# Altium footprint library PCB - SWITCH - CTS 218-4LPJ.PCBLIB: 1 footprints
Each footprint in its own frame and in the unit in brackets; x right, y up, seen from the top. Pads: shape width x height; smd on the part's side, far side on the other; paste and mask are expansions set on the pad; w line width, h text height; cw(c..) or ccw(c..) is an arc to the next point about the centre after c.
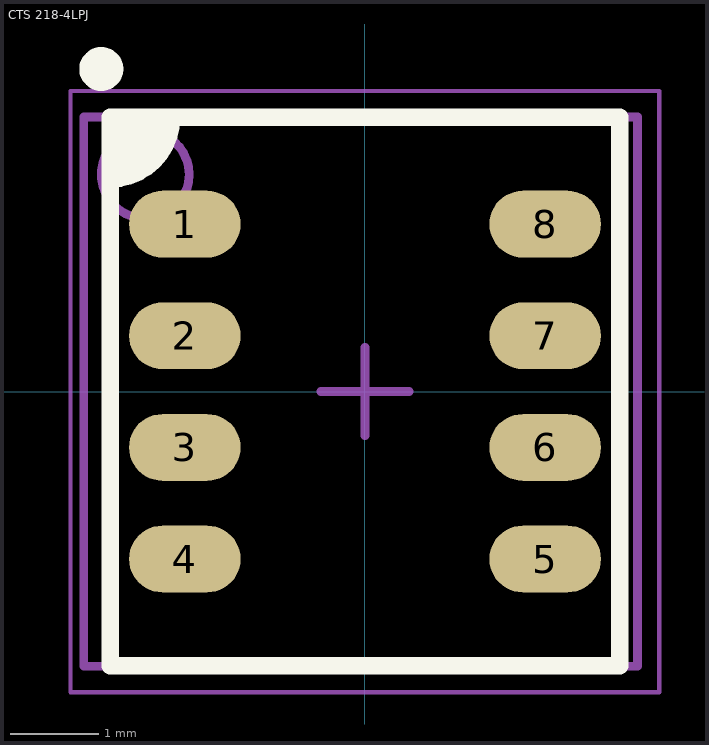
[diagram p0: the footprint, top view; thin cyan lines are the x and y axes]

## CTS 218-4LPJ [mm] "DIP, 6 POS, Body 8.79x6.05mm, Pitch 1.27mm, IPC Medium Density"
height 2.7
pads (8):
  oval 1.27x0.76 smd: 1(-2.05,1.905) 2(-2.05,0.635) 3(-2.05,-0.635) 4(-2.05,-1.905) 5(2.05,-1.905) 6(2.05,-0.635) 7(2.05,0.635) 8(2.05,1.905)
Top Overlay:
  circle w0.25: c-3,3.67 r0.125
  region: -2.9,3.12 -2.9,2.37 -2.7,2.37 -2.2,2.87 -2.2,3.12
  lines w0.2: -2.9,2.42 ccw(c-2.9,3.12) -2.2,3.12 ; -2.9,-3.12 -2.9,3.12 2.9,3.12 2.9,-3.12 -2.9,-3.12
Mechanical 13:
  circle w0.1: c-2.5,2.47 r0.5
  lines w0.1: -3.2,-3.125 3.1,-3.125 3.1,3.125 -3.2,3.125 -3.2,-3.125
Mechanical 15:
  lines w0.05: -3.35,-3.42 3.35,-3.42 3.35,3.42 -3.35,3.42 -3.35,-3.42
  lines w0.1: -0.5,0 0.5,0 ; 0,-0.5 0,0.5
3D body "CTS-218-4LPSTJ.STEP": height 2.71, standoff 0, extent -3.155,-3.125 3.155,3.125